# Altium footprint library PcbLib1.PcbLib: 20 footprints (part 1 of 2)
Each footprint in its own frame and in the unit in brackets; x right, y up, seen from the top. Pads: shape width x height; smd on the part's side, far side on the other; paste and mask are expansions set on the pad; w line width, h text height; cw(c..) or ccw(c..) is an arc to the next point about the centre after c.
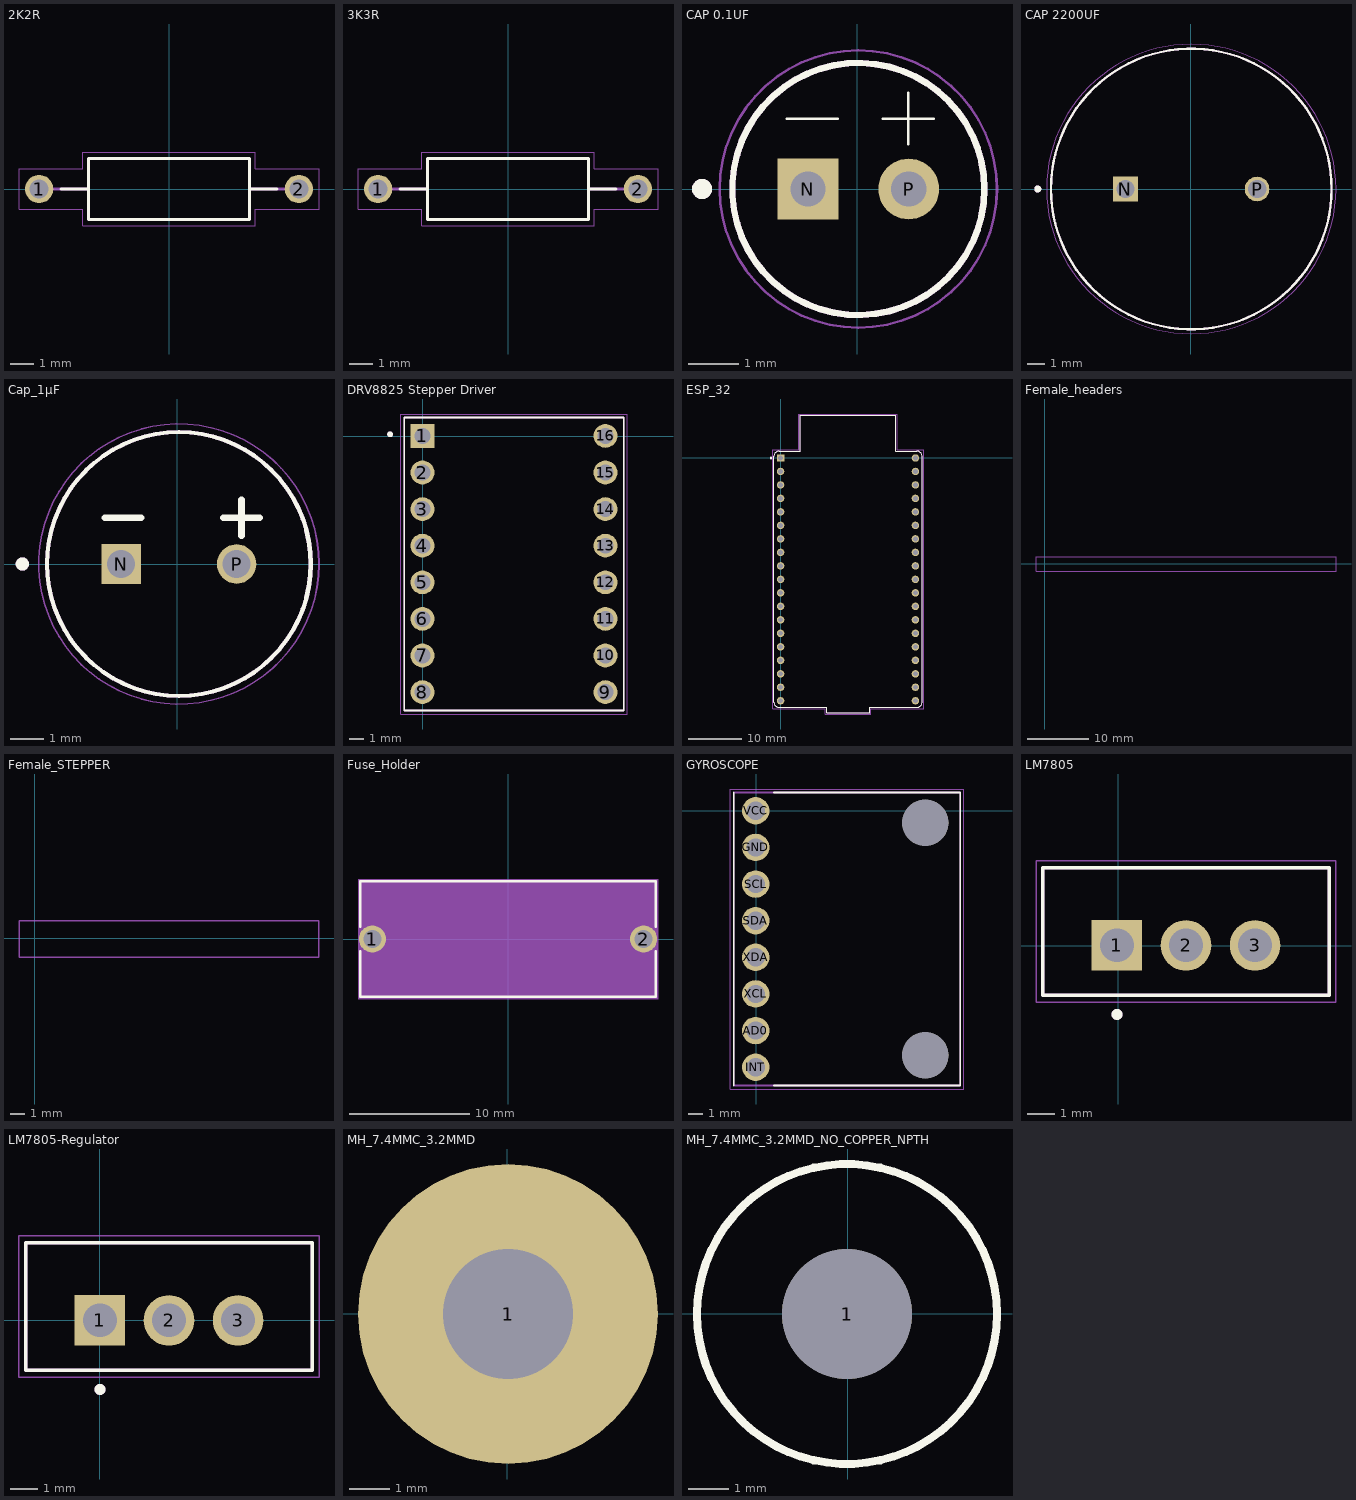
[diagram p0: the footprints below, top view; thin cyan lines are the x and y axes]

## 2K2R [mm]
pads (2):
  round 1.2 hole 0.8: 1(-5.5,0) 2(5.5,0)
Top Overlay:
  lines w0.127: -4.58,0 -3.4,0 ; 4.58,0 3.4,0 ; -3.4,0 -3.4,1.3 3.4,1.3 3.4,0 ; -3.4,0 -3.4,-1.3 3.4,-1.3 3.4,0
Mechanical 13:
  lines w0.127: -4.9,0 -3.4,0 ; 4.9,0 3.4,0 ; -3.4,0 -3.4,1.3 3.4,1.3 3.4,0 ; -3.4,0 -3.4,-1.3 3.4,-1.3 3.4,0
Mechanical 15:
  lines w0.05: -6.35,-0.85 -3.65,-0.85 -3.65,-1.55 3.65,-1.55 3.65,-0.85 6.35,-0.85 6.35,0.85 3.65,0.85 3.65,1.55 -3.65,1.55 -3.65,0.85 -6.35,0.85 -6.35,-0.85
3D body "step_temp.STEP": height 2.4, standoff -26.95, extent -5.775,-1.2 5.775,1.2

## 3K3R [mm]
pads (2):
  round 1.2 hole 0.8: 1(-5.5,0) 2(5.5,0)
Top Overlay:
  lines w0.127: -4.58,0 -3.4,0 ; 4.58,0 3.4,0 ; -3.4,0 -3.4,-1.3 3.4,-1.3 3.4,0 ; -3.4,0 -3.4,1.3 3.4,1.3 3.4,0
Mechanical 13:
  lines w0.127: -4.9,0 -3.4,0 ; 4.9,0 3.4,0 ; -3.4,0 -3.4,-1.3 3.4,-1.3 3.4,0 ; -3.4,0 -3.4,1.3 3.4,1.3 3.4,0
Mechanical 15:
  lines w0.05: -6.35,-0.85 -6.35,0.85 -3.65,0.85 -3.65,1.55 3.65,1.55 3.65,0.85 6.35,0.85 6.35,-0.85 3.65,-0.85 3.65,-1.55 -3.65,-1.55 -3.65,-0.85 -6.35,-0.85
3D body "step_temp.STEP": height 2.4, standoff -26.95, extent -5.775,-1.2 5.775,1.2

## 3M-SCREW [mm]
3D body "TR00011471-000.STEP": height 0, standoff -20, extent -2.8,-2.671 2.8,2.871

## CAP 0.1UF [mm]
pads (2):
  rect 1.208x1.208 / inner round 1.208 / far side rect 1.208x1.208 hole 0.7: N(-0.975,0)
  round 1.208 hole 0.7: P(1.025,0)
Top Overlay:
  circle w0.2: c-3.075,0 r0.1
  circle w0.127: c0.025,0 r2.5
  lines w0.05: -1.397,1.397 -0.381,1.397 ; 0.508,1.397 1.524,1.397 ; 1.016,0.889 1.016,1.905
Mechanical 13:
  circle w0.2: c-3.075,0 r0.1
  circle w0.127: c0.025,0 r2.5
Mechanical 15:
  circle w0.05: c0.025,0 r2.75
3D body "step_temp.STEP": height 12, standoff -19, extent -2.475,-2.486 2.525,2.486

## CAP 2200UF [mm]
pads (2):
  rect 1.4x1.4 hole 1.05: N(-3.725,0)
  round 1.4 hole 1.05: P(3.775,0)
Top Overlay:
  circle w0.127: c0.025,0 r8
  circle w0.2: c-8.725,0 r0.1
Mechanical 13:
  circle w0.127: c0.025,0 r8
  circle w0.2: c-8.725,0 r0.1
Mechanical 15:
  circle w0.05: c0.025,0 r8.25
3D body "User Library-CAPAER_D160_L250_P075_W008X030.STEP": height 25.01, standoff -3, extent -7.985,-7.949 8.025,8.051

## Cap_1µF [mm]
pads (2):
  rect 1.2x1.2 / inner round 1.2 / far side rect 1.2x1.2 hole 0.85: N(-1.7,0)
  round 1.2 hole 0.85: P(1.8,0)
Top Overlay:
  circle w0.127: c0.05,0 r4
  circle w0.2: c-4.7,0 r0.1
  lines w0.2: -2.2,1.4 -1.1,1.4 ; 1.4,1.4 2.5,1.4 ; 1.948,0.853 1.948,1.953
Mechanical 13:
  circle w0.127: c0.05,0 r4
  circle w0.2: c-4.7,0 r0.1
Mechanical 15:
  circle w0.05: c0.05,0 r4.25
3D body "User Library-CAP 8X11_5.STEP": height 11.74, standoff -18.75, extent -3.9,-4 4.1,4

## DRV8825 Stepper Driver [mm]
pads (16):
  rect 1.65x1.65 hole 1.1: 1(-0.007,0.02)
  round 1.65 hole 1.1: 2(-0.007,-2.52) 3(-0.007,-5.06) 4(-0.007,-7.6) 5(-0.007,-10.14) 6(-0.007,-12.68) 7(-0.007,-15.22) 8(-0.007,-17.76) 9(12.693,-17.76) 10(12.693,-15.22) 11(12.693,-12.68) 12(12.693,-10.14) 13(12.693,-7.6) 14(12.693,-5.06) 15(12.693,-2.52) 16(12.693,0.02)
Top Overlay:
  circle w0.2: c-2.257,0.13 r0.1
  lines w0.127: -1.277,-19.03 -1.277,1.29 13.963,1.29 13.963,-19.03 -1.277,-19.03
Mechanical 13:
  circle w0.2: c-2.257,0.13 r0.1
  lines w0.127: -1.277,-19.03 13.963,-19.03 13.963,1.29 -1.277,1.29 -1.277,-19.03
Mechanical 15:
  lines w0.05: -1.527,-19.28 14.213,-19.28 14.213,1.54 -1.527,1.54 -1.527,-19.28
3D body "DRV8825 STEPPER MOTOR DRIVER CARRIER--3DModel-STEP-1.STEP": height 11.89, standoff 0.01, extent -1.22,-18.96 14.02,1.36

## ESP_32 [mm]
pads (38):
  rect 1.408x1.408 / inner round 1.408 / far side rect 1.408x1.408 hole 0.9: J2_1(0,-0.025)
  round 1.408 hole 0.9: J2_2(0,-2.565) J2_3(0,-5.105) J2_4(0,-7.645) J2_5(0,-10.185) J2_6(0,-12.725) J2_7(0,-15.265) J2_8(0,-17.805) J2_9(0,-20.345) J2_10(0,-22.885) J2_11(0,-25.425) J2_12(0,-27.965) J2_13(0,-30.505) J2_14(0,-33.045) J2_15(0,-35.585) J2_16(0,-38.125) J2_17(0,-40.665) J2_18(0,-43.205) J2_19(0,-45.745) J3_1(25.4,-0.025) J3_2(25.4,-2.565) J3_3(25.4,-5.105) J3_4(25.4,-7.645) J3_5(25.4,-10.185) J3_6(25.4,-12.725) J3_7(25.4,-15.265) J3_8(25.4,-17.805) J3_9(25.4,-20.345) J3_10(25.4,-22.885) J3_11(25.4,-25.425) J3_12(25.4,-27.965) J3_13(25.4,-30.505) J3_14(25.4,-33.045) J3_15(25.4,-35.585) J3_16(25.4,-38.125) J3_17(25.4,-40.665) J3_18(25.4,-43.205) J3_19(25.4,-45.745)
Top Overlay:
  circle w0.2: c-1.8,-0.025 r0.1
  lines w0.127: -1.27,-45.99 ccw(c-0.27,-45.99) -0.27,-46.99 8.65,-46.99 8.65,-47.99 16.75,-47.99 16.75,-46.99 25.67,-46.99 ccw(c25.67,-45.99) 26.67,-45.99 26.67,0.27 ccw(c25.67,0.27) 25.67,1.27 21.7,1.27 21.7,8.01 3.7,8.01 3.7,1.27 -0.27,1.27 ccw(c-0.27,0.27) -1.27,0.27 -1.27,-45.99
Mechanical 13:
  circle w0.2: c-1.8,-0.025 r0.1
  lines w0.127: -1.27,-45.99 ccw(c-0.27,-45.99) -0.27,-46.99 8.65,-46.99 8.65,-47.99 16.75,-47.99 16.75,-46.99 25.67,-46.99 ccw(c25.67,-45.99) 26.67,-45.99 26.67,0.27 ccw(c25.67,0.27) 25.67,1.27 21.7,1.27 21.7,8.01 3.7,8.01 3.7,1.27 -0.27,1.27 ccw(c-0.27,0.27) -1.27,0.27 -1.27,-45.99
Mechanical 15:
  lines w0.05: -1.52,-47.24 -1.52,1.52 3.45,1.52 3.45,8.26 21.95,8.26 21.95,1.52 26.92,1.52 26.92,-47.24 17,-47.24 17,-48.24 8.4,-48.24 8.4,-47.24 -1.52,-47.24
3D body "step_temp.STEP": height 18.69, standoff 6, extent -1.27,-47.66 26.67,7.44

## Female_headers [mm]
Mechanical 13:
  lines w0.1: -1.446,-1.218 -1.446,1.195 ; -1.446,-1.218 47.324,-1.218 ; -1.446,-1.218 -1.446,1.195 ; -1.446,1.195 47.324,1.195 ; -1.446,1.195 47.324,1.195 ; 47.324,-1.218 47.324,1.195 ; 47.324,-1.218 47.324,1.195
3D body "SSW-119-06-S-S.stp": height 8.51, standoff -3.15, extent -1.468,-1.206 47.3,1.206

## Female_STEPPER [mm]
Mechanical 13:
  lines w0.1: -1.085,-1.295 -1.085,1.205 19.735,1.205 19.735,-1.295 -1.085,-1.295
3D body "step_temp.STEP": height 8.55, standoff -3.06, extent -1.085,-1.295 19.735,1.205

## Fuse_Holder [mm]
pads (2):
  round 2.25 hole 1.5: 1(-11.3,0) 2(11.3,0)
Top Overlay:
  lines w0.2: -12.3,-1 -12.3,-4.8 12.3,-4.8 12.3,-1 ; -12.3,1 -12.3,4.8 12.3,4.8 12.3,1
Mechanical 13:
  lines w0.1: -12.2,-4.7 -12.2,4.7 12.2,4.7 12.2,-4.7 -12.2,-4.7
Mechanical 15:
  region: 12.5,-5 -12.5,-5 -12.5,5 12.5,5
3D body "step_temp.STEP": height 24.2, standoff -3, extent -12.1,-4.7 12.3,4.7

## GYROSCOPE [mm]
pads (10):
  round 1.905 hole 1.27 mask+0.102: AD0(-0.022,-15.232) GND(-0.022,-2.532) INT(-0.022,-17.772) SCL(-0.022,-5.072) SDA(-0.022,-7.612) VCC(-0.022,0.008) XCL(-0.022,-12.692) XDA(-0.022,-10.152)
  round 3.2 hole 3.2 unplated mask+0: ""(11.738,-16.942) ""(11.738,-0.822)
Top Overlay:
  lines w0.127: -1.542,-19.032 -1.542,1.268 ; 1.251,-19.032 14.158,-19.032 14.158,1.268 1.251,1.268
Mechanical 13:
  lines w0.127: -1.542,-19.032 14.158,-19.032 14.158,1.268 -1.542,1.268 -1.542,-19.032
Mechanical 15:
  lines w0.05: -1.792,-19.282 -1.792,1.518 14.408,1.518 14.408,-19.282 -1.792,-19.282
3D body "step_temp.STEP": height 13.2, standoff 10.2, extent -1.542,-19.032 14.158,1.268

## LM7805 [mm]
pads (3):
  rect 1.86x1.86 / inner round 1.86 / far side rect 1.86x1.86 hole 1.24: 1(-0.042,0.021)
  round 1.86 hole 1.24: 2(2.498,0.021) 3(5.038,0.021)
Top Overlay:
  circle w0.2: c-0.042,-2.519 r0.1
  lines w0.127: -2.772,-1.819 7.768,-1.819 7.768,2.881 -2.772,2.881 -2.772,-1.819
Mechanical 13:
  circle w0.2: c-0.042,-2.519 r0.1
  lines w0.127: -2.772,-1.819 7.768,-1.819 7.768,2.881 -2.772,2.881 -2.772,-1.819
Mechanical 15:
  lines w0.05: -3.022,-2.069 8.018,-2.069 8.018,3.131 -3.022,3.131 -3.022,-2.069
3D body "LM7805CT_NOPB.STEP": height 15.49, standoff -13.84, extent -2.66,-2.899 7.5,1.8

## LM7805-Regulator [mm]
pads (3):
  rect 1.86x1.86 / inner round 1.86 / far side rect 1.86x1.86 hole 1.24: 1(0,0)
  round 1.86 hole 1.24: 2(2.54,0) 3(5.08,0)
Top Overlay:
  circle w0.2: c0,-2.54 r0.1
  lines w0.127: -2.73,-1.84 -2.73,2.86 7.81,2.86 7.81,-1.84 -2.73,-1.84
Mechanical 13:
  circle w0.2: c0,-2.54 r0.1
  lines w0.127: -2.73,-1.84 -2.73,2.86 7.81,2.86 7.81,-1.84 -2.73,-1.84
Mechanical 15:
  lines w0.05: -2.98,-2.09 -2.98,3.11 8.06,3.11 8.06,-2.09 -2.98,-2.09
3D body "LM7805CT_NOPB.STEP": height 15.49, standoff -13.84, extent -2.618,-2.92 7.542,1.779

## MH_7.4MMC_3.2MMD [mm]
pads (1):
  round 7.4 hole 3.2: 1(0.024,-0.009)

## MH_7.4MMC_3.2MMD_NO_COPPER_NPTH [mm]
pads (1):
  round 3.2 hole 3.2 unplated: 1(-0.016,-0.005)
Top Overlay:
  circle w0.2: c-0.016,-0.005 r3.7